# EAGLE library part COLOR_SENSOR_PINS (library ColorfulTunes)
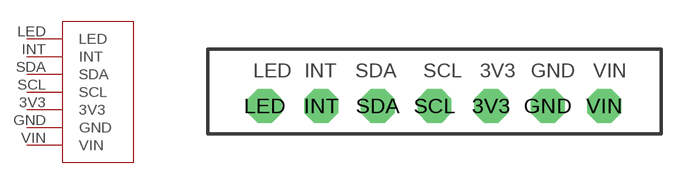
[diagram p1: symbol with the pads of COLOR_SENSOR; footprint COLOR_SENSOR]

Designator prefix CS

## COLOR_SENSOR_PINS  [COLOR_SENSOR]
3V3  3V3
GND  GND
INT  INT
LED  LED
SCL  SCL
SDA  SDA
VIN  VIN

## Footprint COLOR_SENSOR (pad centres in mm)
drill 0.889 pad 1.524 octagon: 3V3 10.16,0; GND 12.7,0; INT 2.54,0; LED 0,0; SCL 7.62,0; SDA 5.08,0; VIN 15.24,0